# EAGLE library part 418217170905 (library Wurth_Elektronik_Electromechanic_Switch_rev15d)
WS-RA 2.54 mm right angled compact THT Dip Switch with flat actuator, 5 Pole
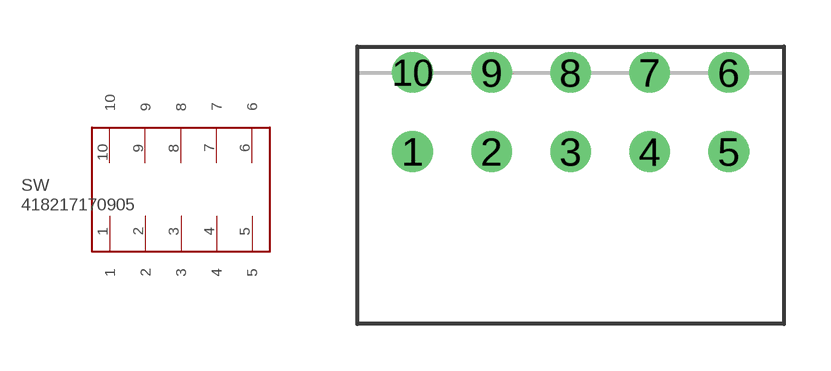
[diagram p86: symbol with the pads of 418217170905; footprint 418217170905]

Designator prefix SW

## 418217170905  [418217170905]
1  1
2  2
3  3
4  4
5  5
6  6
7  7
8  8
9  9
10  10

## Footprint 418217170905 (pad centres in mm)
WS-RA 2.54 mm right angled compact THT Dip Switch with flat actuator, 5 Pole
drill 0.8: 1 -5.08,-1.27; 2 -2.54,-1.27; 3 0,-1.27; 4 2.54,-1.27; 5 5.08,-1.27; 6 5.08,1.27; 7 2.54,1.27; 8 0,1.27; 9 -2.54,1.27; 10 -5.08,1.27